# EAGLE library part USB-787616 (library Gcharger)
AMP connector
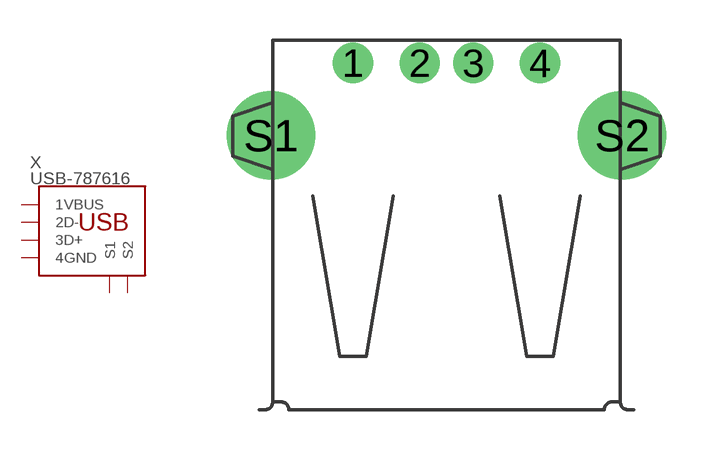
[diagram p3: symbol with the pads of USB-A-RECEPT; footprint USB-A-RECEPT]

Designator prefix X

## USB-787616  [USB-A-RECEPT]
1  1VBUS  pas
2  2D-  pas
3  3D+  pas
4  4GND  pas
S1  S1  pas
S2  S2  pas

## Footprint USB-A-RECEPT (pad centres in mm)
USB connector
drill 1: 1 -3.5,2.71; 2 -1,2.71; 3 1,2.71; 4 3.5,2.71
drill 2.3: S1 -6.57,0; S2 6.57,0